# Altium footprint library Pin Grid Array Package (PGA).PcbLib: 60 footprints (part 5 of 6)
Each footprint in its own frame and in the unit in brackets; x right, y up, seen from the top. Pads: shape width x height; smd on the part's side, far side on the other; paste and mask are expansions set on the pad; w line width, h text height; cw(c..) or ccw(c..) is an arc to the next point about the centre after c.
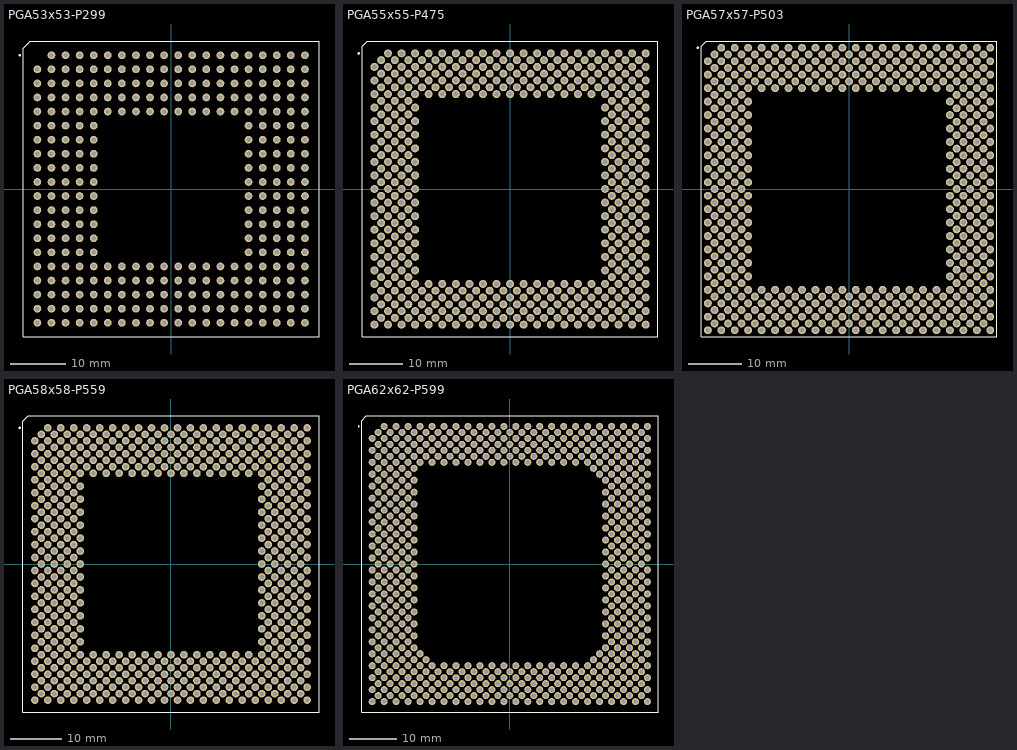
[diagram p4: the footprints below, top view; thin cyan lines are the x and y axes]

## PGA53x53-P299 [mm] "PGA; 299 Leads; Body 52 x 52 mm; Plain Grid"
height 5.08
pads (299):
  round 1.4 hole 0.8: A2(-21.59,24.13) A3(-19.05,24.13) A4(-16.51,24.13) A5(-13.97,24.13) A6(-11.43,24.13) A7(-8.89,24.13) A8(-6.35,24.13) A9(-3.81,24.13) A10(-1.27,24.13) A11(1.27,24.13) A12(3.81,24.13) A13(6.35,24.13) A14(8.89,24.13) A15(11.43,24.13) A16(13.97,24.13) A17(16.51,24.13) A18(19.05,24.13) A19(21.59,24.13) A20(24.13,24.13) B1(-24.13,21.59) B2(-21.59,21.59) B3(-19.05,21.59) B4(-16.51,21.59) B5(-13.97,21.59) B6(-11.43,21.59) B7(-8.89,21.59) B8(-6.35,21.59) B9(-3.81,21.59) B10(-1.27,21.59) B11(1.27,21.59) B12(3.81,21.59) B13(6.35,21.59) B14(8.89,21.59) B15(11.43,21.59) B16(13.97,21.59) B17(16.51,21.59) B18(19.05,21.59) B19(21.59,21.59) B20(24.13,21.59) C1(-24.13,19.05) C2(-21.59,19.05) C3(-19.05,19.05) C4(-16.51,19.05) C5(-13.97,19.05) C6(-11.43,19.05) C7(-8.89,19.05) C8(-6.35,19.05) C9(-3.81,19.05) C10(-1.27,19.05) C11(1.27,19.05) C12(3.81,19.05) C13(6.35,19.05) C14(8.89,19.05) C15(11.43,19.05) C16(13.97,19.05) C17(16.51,19.05) C18(19.05,19.05) C19(21.59,19.05) C20(24.13,19.05) D1(-24.13,16.51) D2(-21.59,16.51) D3(-19.05,16.51) D4(-16.51,16.51) D5(-13.97,16.51) D6(-11.43,16.51) D7(-8.89,16.51) D8(-6.35,16.51) D9(-3.81,16.51) D10(-1.27,16.51) D11(1.27,16.51) D12(3.81,16.51) D13(6.35,16.51) D14(8.89,16.51) D15(11.43,16.51) D16(13.97,16.51) D17(16.51,16.51) D18(19.05,16.51) D19(21.59,16.51) D20(24.13,16.51) E1(-24.13,13.97) E2(-21.59,13.97) E3(-19.05,13.97) E4(-16.51,13.97) E5(-13.97,13.97) E6(-11.43,13.97) E7(-8.89,13.97) E8(-6.35,13.97) E9(-3.81,13.97) E10(-1.27,13.97) E11(1.27,13.97) E12(3.81,13.97) E13(6.35,13.97) E14(8.89,13.97) E15(11.43,13.97) E16(13.97,13.97) E17(16.51,13.97) E18(19.05,13.97) E19(21.59,13.97) E20(24.13,13.97) F1(-24.13,11.43) F2(-21.59,11.43) F3(-19.05,11.43) F4(-16.51,11.43) F5(-13.97,11.43) F16(13.97,11.43) F17(16.51,11.43) F18(19.05,11.43) F19(21.59,11.43) F20(24.13,11.43) G1(-24.13,8.89) G2(-21.59,8.89) G3(-19.05,8.89) G4(-16.51,8.89) G5(-13.97,8.89) G16(13.97,8.89) G17(16.51,8.89) G18(19.05,8.89) G19(21.59,8.89) G20(24.13,8.89) H1(-24.13,6.35) H2(-21.59,6.35) H3(-19.05,6.35) H4(-16.51,6.35) H5(-13.97,6.35) H16(13.97,6.35) H17(16.51,6.35) H18(19.05,6.35) H19(21.59,6.35) H20(24.13,6.35) J1(-24.13,3.81) J2(-21.59,3.81) J3(-19.05,3.81) J4(-16.51,3.81) J5(-13.97,3.81) J16(13.97,3.81) J17(16.51,3.81) J18(19.05,3.81) J19(21.59,3.81) J20(24.13,3.81) K1(-24.13,1.27) K2(-21.59,1.27) K3(-19.05,1.27) K4(-16.51,1.27) K5(-13.97,1.27) K16(13.97,1.27) K17(16.51,1.27) K18(19.05,1.27) K19(21.59,1.27) K20(24.13,1.27) L1(-24.13,-1.27) L2(-21.59,-1.27) L3(-19.05,-1.27) L4(-16.51,-1.27) L5(-13.97,-1.27) L16(13.97,-1.27) L17(16.51,-1.27) L18(19.05,-1.27) L19(21.59,-1.27) L20(24.13,-1.27) M1(-24.13,-3.81) M2(-21.59,-3.81) M3(-19.05,-3.81) M4(-16.51,-3.81) M5(-13.97,-3.81) M16(13.97,-3.81) M17(16.51,-3.81) M18(19.05,-3.81) M19(21.59,-3.81) M20(24.13,-3.81) N1(-24.13,-6.35) N2(-21.59,-6.35) N3(-19.05,-6.35) N4(-16.51,-6.35) N5(-13.97,-6.35) N16(13.97,-6.35) N17(16.51,-6.35) N18(19.05,-6.35) N19(21.59,-6.35) N20(24.13,-6.35) P1(-24.13,-8.89) P2(-21.59,-8.89) P3(-19.05,-8.89) P4(-16.51,-8.89) P5(-13.97,-8.89) P16(13.97,-8.89) P17(16.51,-8.89) P18(19.05,-8.89) P19(21.59,-8.89) P20(24.13,-8.89) R1(-24.13,-11.43) R2(-21.59,-11.43) R3(-19.05,-11.43) R4(-16.51,-11.43) R5(-13.97,-11.43) R16(13.97,-11.43) R17(16.51,-11.43) R18(19.05,-11.43) R19(21.59,-11.43) R20(24.13,-11.43) T1(-24.13,-13.97) T2(-21.59,-13.97) T3(-19.05,-13.97) T4(-16.51,-13.97) T5(-13.97,-13.97) T6(-11.43,-13.97) T7(-8.89,-13.97) T8(-6.35,-13.97) T9(-3.81,-13.97) T10(-1.27,-13.97) T11(1.27,-13.97) T12(3.81,-13.97) T13(6.35,-13.97) T14(8.89,-13.97) T15(11.43,-13.97) T16(13.97,-13.97) T17(16.51,-13.97) T18(19.05,-13.97) T19(21.59,-13.97) T20(24.13,-13.97) U1(-24.13,-16.51) U2(-21.59,-16.51) U3(-19.05,-16.51) U4(-16.51,-16.51) U5(-13.97,-16.51) U6(-11.43,-16.51) U7(-8.89,-16.51) U8(-6.35,-16.51) U9(-3.81,-16.51) U10(-1.27,-16.51) U11(1.27,-16.51) U12(3.81,-16.51) U13(6.35,-16.51) U14(8.89,-16.51) U15(11.43,-16.51) U16(13.97,-16.51) U17(16.51,-16.51) U18(19.05,-16.51) U19(21.59,-16.51) U20(24.13,-16.51) V1(-24.13,-19.05) V2(-21.59,-19.05) V3(-19.05,-19.05) V4(-16.51,-19.05) V5(-13.97,-19.05) V6(-11.43,-19.05) V7(-8.89,-19.05) V8(-6.35,-19.05) V9(-3.81,-19.05) V10(-1.27,-19.05) V11(1.27,-19.05) V12(3.81,-19.05) V13(6.35,-19.05) V14(8.89,-19.05) V15(11.43,-19.05) V16(13.97,-19.05) V17(16.51,-19.05) V18(19.05,-19.05) V19(21.59,-19.05) V20(24.13,-19.05) W1(-24.13,-21.59) W2(-21.59,-21.59) W3(-19.05,-21.59) W4(-16.51,-21.59) W5(-13.97,-21.59) W6(-11.43,-21.59) W7(-8.89,-21.59) W8(-6.35,-21.59) W9(-3.81,-21.59) W10(-1.27,-21.59) W11(1.27,-21.59) W12(3.81,-21.59) W13(6.35,-21.59) W14(8.89,-21.59) W15(11.43,-21.59) W16(13.97,-21.59) W17(16.51,-21.59) W18(19.05,-21.59) W19(21.59,-21.59) W20(24.13,-21.59) Y1(-24.13,-24.13) Y2(-21.59,-24.13) Y3(-19.05,-24.13) Y4(-16.51,-24.13) Y5(-13.97,-24.13) Y6(-11.43,-24.13) Y7(-8.89,-24.13) Y8(-6.35,-24.13) Y9(-3.81,-24.13) Y10(-1.27,-24.13) Y11(1.27,-24.13) Y12(3.81,-24.13) Y13(6.35,-24.13) Y14(8.89,-24.13) Y15(11.43,-24.13) Y16(13.97,-24.13) Y17(16.51,-24.13) Y18(19.05,-24.13) Y19(21.59,-24.13) Y20(24.13,-24.13)
Top Overlay:
  circle w0.25: c-27.32,24.13 r0.125
  lines w0.2: -26.67,-26.67 -26.67,25.4 -25.4,26.67 26.67,26.67 26.67,-26.67 -26.67,-26.67

## PGA55x55-P475 [mm] "475-Pin Ceramic Pin Grid Array (PG475)"
height 5.86
pads (475):
  round 1.5 hole 0.9: A3(-22.86,25.4) A5(-20.32,25.4) A7(-17.78,25.4) A9(-15.24,25.4) A11(-12.7,25.4) A13(-10.16,25.4) A15(-7.62,25.4) A17(-5.08,25.4) A19(-2.54,25.4) A21(0,25.4) A23(2.54,25.4) A25(5.08,25.4) A27(7.62,25.4) A29(10.16,25.4) A31(12.7,25.4) A33(15.24,25.4) A35(17.78,25.4) A37(20.32,25.4) A39(22.86,25.4) A41(25.4,25.4) AA1(-25.4,0) AA3(-22.86,0) AA5(-20.32,0) AA7(-17.78,0) AA35(17.78,0) AA37(20.32,0) AA39(22.86,0) AA41(25.4,0) AB2(-24.13,-1.27) AB4(-21.59,-1.27) AB6(-19.05,-1.27) AB36(19.05,-1.27) AB38(21.59,-1.27) AB40(24.13,-1.27) AC1(-25.4,-2.54) AC3(-22.86,-2.54) AC5(-20.32,-2.54) AC7(-17.78,-2.54) AC35(17.78,-2.54) AC37(20.32,-2.54) AC39(22.86,-2.54) AC41(25.4,-2.54) AD2(-24.13,-3.81) AD4(-21.59,-3.81) AD6(-19.05,-3.81) AD36(19.05,-3.81) AD38(21.59,-3.81) AD40(24.13,-3.81) AE1(-25.4,-5.08) AE3(-22.86,-5.08) AE5(-20.32,-5.08) AE7(-17.78,-5.08) AE35(17.78,-5.08) AE37(20.32,-5.08) AE39(22.86,-5.08) AE41(25.4,-5.08) AF2(-24.13,-6.35) AF4(-21.59,-6.35) AF6(-19.05,-6.35) AF36(19.05,-6.35) AF38(21.59,-6.35) AF40(24.13,-6.35) AG1(-25.4,-7.62) AG3(-22.86,-7.62) AG5(-20.32,-7.62) AG7(-17.78,-7.62) AG35(17.78,-7.62) AG37(20.32,-7.62) AG39(22.86,-7.62) AG41(25.4,-7.62) AH2(-24.13,-8.89) AH4(-21.59,-8.89) AH6(-19.05,-8.89) AH36(19.05,-8.89) AH38(21.59,-8.89) AH40(24.13,-8.89) AJ1(-25.4,-10.16) AJ3(-22.86,-10.16) AJ5(-20.32,-10.16) AJ7(-17.78,-10.16) AJ35(17.78,-10.16) AJ37(20.32,-10.16) AJ39(22.86,-10.16) AJ41(25.4,-10.16) AK2(-24.13,-11.43) AK4(-21.59,-11.43) AK6(-19.05,-11.43) AK36(19.05,-11.43) AK38(21.59,-11.43) AK40(24.13,-11.43) AL1(-25.4,-12.7) AL3(-22.86,-12.7) AL5(-20.32,-12.7) AL7(-17.78,-12.7) AL35(17.78,-12.7) AL37(20.32,-12.7) AL39(22.86,-12.7) AL41(25.4,-12.7) AM2(-24.13,-13.97) AM4(-21.59,-13.97) AM6(-19.05,-13.97) AM36(19.05,-13.97) AM38(21.59,-13.97) AM40(24.13,-13.97) AN1(-25.4,-15.24) AN3(-22.86,-15.24) AN5(-20.32,-15.24) AN7(-17.78,-15.24) AN35(17.78,-15.24) AN37(20.32,-15.24) AN39(22.86,-15.24) AN41(25.4,-15.24) AP2(-24.13,-16.51) AP4(-21.59,-16.51) AP6(-19.05,-16.51) AP36(19.05,-16.51) AP38(21.59,-16.51) AP40(24.13,-16.51) AR1(-25.4,-17.78) AR3(-22.86,-17.78) AR5(-20.32,-17.78) AR7(-17.78,-17.78) AR9(-15.24,-17.78) AR11(-12.7,-17.78) AR13(-10.16,-17.78) AR15(-7.62,-17.78) AR17(-5.08,-17.78) AR19(-2.54,-17.78) AR21(0,-17.78) AR23(2.54,-17.78) AR25(5.08,-17.78) AR27(7.62,-17.78) AR29(10.16,-17.78) AR31(12.7,-17.78) AR33(15.24,-17.78) AR35(17.78,-17.78) AR37(20.32,-17.78) AR39(22.86,-17.78) AR41(25.4,-17.78) AT2(-24.13,-19.05) AT4(-21.59,-19.05) AT6(-19.05,-19.05) AT8(-16.51,-19.05) AT10(-13.97,-19.05) AT12(-11.43,-19.05) AT14(-8.89,-19.05) AT16(-6.35,-19.05) AT18(-3.81,-19.05) AT20(-1.27,-19.05) AT22(1.27,-19.05) AT24(3.81,-19.05) AT26(6.35,-19.05) AT28(8.89,-19.05) AT30(11.43,-19.05) AT32(13.97,-19.05) AT34(16.51,-19.05) AT36(19.05,-19.05) AT38(21.59,-19.05) AT40(24.13,-19.05) AU1(-25.4,-20.32) AU3(-22.86,-20.32) AU5(-20.32,-20.32) AU7(-17.78,-20.32) AU9(-15.24,-20.32) AU11(-12.7,-20.32) AU13(-10.16,-20.32) AU15(-7.62,-20.32) AU17(-5.08,-20.32) AU19(-2.54,-20.32) AU21(0,-20.32) AU23(2.54,-20.32) AU25(5.08,-20.32) AU27(7.62,-20.32) AU29(10.16,-20.32) AU31(12.7,-20.32) AU33(15.24,-20.32) AU35(17.78,-20.32) AU37(20.32,-20.32) AU39(22.86,-20.32) AU41(25.4,-20.32) AV2(-24.13,-21.59) AV4(-21.59,-21.59) AV6(-19.05,-21.59) AV8(-16.51,-21.59) AV10(-13.97,-21.59) AV12(-11.43,-21.59) AV14(-8.89,-21.59) AV16(-6.35,-21.59) AV18(-3.81,-21.59) AV20(-1.27,-21.59) AV22(1.27,-21.59) AV24(3.81,-21.59) AV26(6.35,-21.59) AV28(8.89,-21.59) AV30(11.43,-21.59) AV32(13.97,-21.59) AV34(16.51,-21.59) AV36(19.05,-21.59) AV38(21.59,-21.59) AV40(24.13,-21.59) AW1(-25.4,-22.86) AW3(-22.86,-22.86) AW5(-20.32,-22.86) AW7(-17.78,-22.86) AW9(-15.24,-22.86) AW11(-12.7,-22.86) AW13(-10.16,-22.86) AW15(-7.62,-22.86) AW17(-5.08,-22.86) AW19(-2.54,-22.86) AW21(0,-22.86) AW23(2.54,-22.86) AW25(5.08,-22.86) AW27(7.62,-22.86) AW29(10.16,-22.86) AW31(12.7,-22.86) AW33(15.24,-22.86) AW35(17.78,-22.86) AW37(20.32,-22.86) AW39(22.86,-22.86) AW41(25.4,-22.86) AY2(-24.13,-24.13) AY4(-21.59,-24.13) AY6(-19.05,-24.13) AY8(-16.51,-24.13) AY10(-13.97,-24.13) AY12(-11.43,-24.13) AY14(-8.89,-24.13) AY16(-6.35,-24.13) AY18(-3.81,-24.13) AY20(-1.27,-24.13) AY22(1.27,-24.13) AY24(3.81,-24.13) AY26(6.35,-24.13) AY28(8.89,-24.13) AY30(11.43,-24.13) AY32(13.97,-24.13) AY34(16.51,-24.13) AY36(19.05,-24.13) AY38(21.59,-24.13) AY40(24.13,-24.13) B2(-24.13,24.13) B4(-21.59,24.13) B6(-19.05,24.13) B8(-16.51,24.13) B10(-13.97,24.13) B12(-11.43,24.13) B14(-8.89,24.13) B16(-6.35,24.13) B18(-3.81,24.13) B20(-1.27,24.13) B22(1.27,24.13) B24(3.81,24.13) B26(6.35,24.13) B28(8.89,24.13) B30(11.43,24.13) B32(13.97,24.13) B34(16.51,24.13) B36(19.05,24.13) B38(21.59,24.13) B40(24.13,24.13) BA1(-25.4,-25.4) BA3(-22.86,-25.4) BA5(-20.32,-25.4) BA7(-17.78,-25.4) BA9(-15.24,-25.4) BA11(-12.7,-25.4) BA13(-10.16,-25.4) BA15(-7.62,-25.4) BA17(-5.08,-25.4) BA19(-2.54,-25.4) BA21(0,-25.4) BA23(2.54,-25.4) BA25(5.08,-25.4) BA27(7.62,-25.4) BA29(10.16,-25.4) BA31(12.7,-25.4) BA33(15.24,-25.4) BA35(17.78,-25.4) BA37(20.32,-25.4) BA39(22.86,-25.4) BA41(25.4,-25.4) C1(-25.4,22.86) C3(-22.86,22.86) C5(-20.32,22.86) C7(-17.78,22.86) C9(-15.24,22.86) C11(-12.7,22.86) C13(-10.16,22.86) C15(-7.62,22.86) C17(-5.08,22.86) C19(-2.54,22.86) C21(0,22.86) C23(2.54,22.86) C25(5.08,22.86) C27(7.62,22.86) C29(10.16,22.86) C31(12.7,22.86) C33(15.24,22.86) C35(17.78,22.86) C37(20.32,22.86) C39(22.86,22.86) C41(25.4,22.86) D2(-24.13,21.59) D4(-21.59,21.59) D6(-19.05,21.59) D8(-16.51,21.59) D10(-13.97,21.59) D12(-11.43,21.59) D14(-8.89,21.59) D16(-6.35,21.59) D18(-3.81,21.59) D20(-1.27,21.59) D22(1.27,21.59) D24(3.81,21.59) D26(6.35,21.59) D28(8.89,21.59) D30(11.43,21.59) D32(13.97,21.59) D34(16.51,21.59) D36(19.05,21.59) D38(21.59,21.59) D40(24.13,21.59) E1(-25.4,20.32) E3(-22.86,20.32) E5(-20.32,20.32) E7(-17.78,20.32) E9(-15.24,20.32) E11(-12.7,20.32) E13(-10.16,20.32) E15(-7.62,20.32) E17(-5.08,20.32) E19(-2.54,20.32) E21(0,20.32) E23(2.54,20.32) E25(5.08,20.32) E27(7.62,20.32) E29(10.16,20.32) E31(12.7,20.32) E33(15.24,20.32) E35(17.78,20.32) E37(20.32,20.32) E39(22.86,20.32) E41(25.4,20.32) F2(-24.13,19.05) F4(-21.59,19.05) F6(-19.05,19.05) F8(-16.51,19.05) F10(-13.97,19.05) F12(-11.43,19.05) F14(-8.89,19.05) F16(-6.35,19.05) F18(-3.81,19.05) F20(-1.27,19.05) F22(1.27,19.05) F24(3.81,19.05) F26(6.35,19.05) F28(8.89,19.05) F30(11.43,19.05) F32(13.97,19.05) F34(16.51,19.05) F36(19.05,19.05) F38(21.59,19.05) F40(24.13,19.05) G1(-25.4,17.78) G3(-22.86,17.78) G5(-20.32,17.78) G7(-17.78,17.78) G9(-15.24,17.78) G11(-12.7,17.78) G13(-10.16,17.78) G15(-7.62,17.78) G17(-5.08,17.78) G19(-2.54,17.78) G21(0,17.78) G23(2.54,17.78) G25(5.08,17.78) G27(7.62,17.78) G29(10.16,17.78) G31(12.7,17.78) G33(15.24,17.78) G35(17.78,17.78) G37(20.32,17.78) G39(22.86,17.78) G41(25.4,17.78) H2(-24.13,16.51) H4(-21.59,16.51) H6(-19.05,16.51) H36(19.05,16.51) H38(21.59,16.51) H40(24.13,16.51) J1(-25.4,15.24) J3(-22.86,15.24) J5(-20.32,15.24) J7(-17.78,15.24) J35(17.78,15.24) J37(20.32,15.24) J39(22.86,15.24) J41(25.4,15.24) K2(-24.13,13.97) K4(-21.59,13.97) K6(-19.05,13.97) K36(19.05,13.97) K38(21.59,13.97) K40(24.13,13.97) L1(-25.4,12.7) L3(-22.86,12.7) L5(-20.32,12.7) L7(-17.78,12.7) L35(17.78,12.7) L37(20.32,12.7) L39(22.86,12.7) L41(25.4,12.7) M2(-24.13,11.43) M4(-21.59,11.43) M6(-19.05,11.43) M36(19.05,11.43) M38(21.59,11.43) M40(24.13,11.43) N1(-25.4,10.16) N3(-22.86,10.16) N5(-20.32,10.16) N7(-17.78,10.16) N35(17.78,10.16) N37(20.32,10.16) N39(22.86,10.16) N41(25.4,10.16) P2(-24.13,8.89) P4(-21.59,8.89) P6(-19.05,8.89) P36(19.05,8.89) P38(21.59,8.89) P40(24.13,8.89) R1(-25.4,7.62) R3(-22.86,7.62) R5(-20.32,7.62) R7(-17.78,7.62) R35(17.78,7.62) R37(20.32,7.62) R39(22.86,7.62) R41(25.4,7.62) T2(-24.13,6.35) T4(-21.59,6.35) T6(-19.05,6.35) T36(19.05,6.35) T38(21.59,6.35) T40(24.13,6.35) U1(-25.4,5.08) U3(-22.86,5.08) U5(-20.32,5.08) U7(-17.78,5.08) U35(17.78,5.08) U37(20.32,5.08) U39(22.86,5.08) U41(25.4,5.08) V2(-24.13,3.81) V4(-21.59,3.81) V6(-19.05,3.81) V36(19.05,3.81) V38(21.59,3.81) V40(24.13,3.81) W1(-25.4,2.54) W3(-22.86,2.54) W5(-20.32,2.54) W7(-17.78,2.54) W35(17.78,2.54) W37(20.32,2.54) W39(22.86,2.54) W41(25.4,2.54) Y2(-24.13,1.27) Y4(-21.59,1.27) Y6(-19.05,1.27) Y36(19.05,1.27) Y38(21.59,1.27) Y40(24.13,1.27)
Top Overlay:
  circle w0.25: c-28.35,25.4 r0.125
  lines w0.2: -27.7,-27.7 -27.7,26.7 -26.7,27.7 27.7,27.7 27.7,-27.7 -27.7,-27.7

## PGA57x57-P503 [mm] "503-Pin Ceramic Pin-Grid Array (PGA)"
height 5.08
pads (503):
  round 1.5 hole 0.9: A3(-24.13,26.67) A5(-21.59,26.67) A7(-19.05,26.67) A9(-16.51,26.67) A11(-13.97,26.67) A13(-11.43,26.67) A15(-8.89,26.67) A17(-6.35,26.67) A19(-3.81,26.67) A21(-1.27,26.67) A23(1.27,26.67) A25(3.81,26.67) A27(6.35,26.67) A29(8.89,26.67) A31(11.43,26.67) A33(13.97,26.67) A35(16.51,26.67) A37(19.05,26.67) A39(21.59,26.67) A41(24.13,26.67) A43(26.67,26.67) AA1(-26.67,1.27) AA3(-24.13,1.27) AA5(-21.59,1.27) AA7(-19.05,1.27) AA37(19.05,1.27) AA39(21.59,1.27) AA41(24.13,1.27) AA43(26.67,1.27) AB2(-25.4,0) AB4(-22.86,0) AB6(-20.32,0) AB38(20.32,0) AB40(22.86,0) AB42(25.4,0) AC1(-26.67,-1.27) AC3(-24.13,-1.27) AC5(-21.59,-1.27) AC7(-19.05,-1.27) AC37(19.05,-1.27) AC39(21.59,-1.27) AC41(24.13,-1.27) AC43(26.67,-1.27) AD2(-25.4,-2.54) AD4(-22.86,-2.54) AD6(-20.32,-2.54) AD38(20.32,-2.54) AD40(22.86,-2.54) AD42(25.4,-2.54) AE1(-26.67,-3.81) AE3(-24.13,-3.81) AE5(-21.59,-3.81) AE7(-19.05,-3.81) AE37(19.05,-3.81) AE39(21.59,-3.81) AE41(24.13,-3.81) AE43(26.67,-3.81) AF2(-25.4,-5.08) AF4(-22.86,-5.08) AF6(-20.32,-5.08) AF38(20.32,-5.08) AF40(22.86,-5.08) AF42(25.4,-5.08) AG1(-26.67,-6.35) AG3(-24.13,-6.35) AG5(-21.59,-6.35) AG7(-19.05,-6.35) AG37(19.05,-6.35) AG39(21.59,-6.35) AG41(24.13,-6.35) AG43(26.67,-6.35) AH2(-25.4,-7.62) AH4(-22.86,-7.62) AH6(-20.32,-7.62) AH38(20.32,-7.62) AH40(22.86,-7.62) AH42(25.4,-7.62) AJ1(-26.67,-8.89) AJ3(-24.13,-8.89) AJ5(-21.59,-8.89) AJ7(-19.05,-8.89) AJ37(19.05,-8.89) AJ39(21.59,-8.89) AJ41(24.13,-8.89) AJ43(26.67,-8.89) AK2(-25.4,-10.16) AK4(-22.86,-10.16) AK6(-20.32,-10.16) AK38(20.32,-10.16) AK40(22.86,-10.16) AK42(25.4,-10.16) AL1(-26.67,-11.43) AL3(-24.13,-11.43) AL5(-21.59,-11.43) AL7(-19.05,-11.43) AL37(19.05,-11.43) AL39(21.59,-11.43) AL41(24.13,-11.43) AL43(26.67,-11.43) AM2(-25.4,-12.7) AM4(-22.86,-12.7) AM6(-20.32,-12.7) AM38(20.32,-12.7) AM40(22.86,-12.7) AM42(25.4,-12.7) AN1(-26.67,-13.97) AN3(-24.13,-13.97) AN5(-21.59,-13.97) AN7(-19.05,-13.97) AN37(19.05,-13.97) AN39(21.59,-13.97) AN41(24.13,-13.97) AN43(26.67,-13.97) AP2(-25.4,-15.24) AP4(-22.86,-15.24) AP6(-20.32,-15.24) AP38(20.32,-15.24) AP40(22.86,-15.24) AP42(25.4,-15.24) AR1(-26.67,-16.51) AR3(-24.13,-16.51) AR5(-21.59,-16.51) AR7(-19.05,-16.51) AR37(19.05,-16.51) AR39(21.59,-16.51) AR41(24.13,-16.51) AR43(26.67,-16.51) AT2(-25.4,-17.78) AT4(-22.86,-17.78) AT6(-20.32,-17.78) AT38(20.32,-17.78) AT40(22.86,-17.78) AT42(25.4,-17.78) AU1(-26.67,-19.05) AU3(-24.13,-19.05) AU5(-21.59,-19.05) AU7(-19.05,-19.05) AU9(-16.51,-19.05) AU11(-13.97,-19.05) AU13(-11.43,-19.05) AU15(-8.89,-19.05) AU17(-6.35,-19.05) AU19(-3.81,-19.05) AU21(-1.27,-19.05) AU23(1.27,-19.05) AU25(3.81,-19.05) AU27(6.35,-19.05) AU29(8.89,-19.05) AU31(11.43,-19.05) AU33(13.97,-19.05) AU35(16.51,-19.05) AU37(19.05,-19.05) AU39(21.59,-19.05) AU41(24.13,-19.05) AU43(26.67,-19.05) AV2(-25.4,-20.32) AV4(-22.86,-20.32) AV6(-20.32,-20.32) AV8(-17.78,-20.32) AV10(-15.24,-20.32) AV12(-12.7,-20.32) AV14(-10.16,-20.32) AV16(-7.62,-20.32) AV18(-5.08,-20.32) AV20(-2.54,-20.32) AV22(0,-20.32) AV24(2.54,-20.32) AV26(5.08,-20.32) AV28(7.62,-20.32) AV30(10.16,-20.32) AV32(12.7,-20.32) AV34(15.24,-20.32) AV36(17.78,-20.32) AV38(20.32,-20.32) AV40(22.86,-20.32) AV42(25.4,-20.32) AW1(-26.67,-21.59) AW3(-24.13,-21.59) AW5(-21.59,-21.59) AW7(-19.05,-21.59) AW9(-16.51,-21.59) AW11(-13.97,-21.59) AW13(-11.43,-21.59) AW15(-8.89,-21.59) AW17(-6.35,-21.59) AW19(-3.81,-21.59) AW21(-1.27,-21.59) AW23(1.27,-21.59) AW25(3.81,-21.59) AW27(6.35,-21.59) AW29(8.89,-21.59) AW31(11.43,-21.59) AW33(13.97,-21.59) AW35(16.51,-21.59) AW37(19.05,-21.59) AW39(21.59,-21.59) AW41(24.13,-21.59) AW43(26.67,-21.59) AY2(-25.4,-22.86) AY4(-22.86,-22.86) AY6(-20.32,-22.86) AY8(-17.78,-22.86) AY10(-15.24,-22.86) AY12(-12.7,-22.86) AY14(-10.16,-22.86) AY16(-7.62,-22.86) AY18(-5.08,-22.86) AY20(-2.54,-22.86) AY22(0,-22.86) AY24(2.54,-22.86) AY26(5.08,-22.86) AY28(7.62,-22.86) AY30(10.16,-22.86) AY32(12.7,-22.86) AY34(15.24,-22.86) AY36(17.78,-22.86) AY38(20.32,-22.86) AY40(22.86,-22.86) AY42(25.4,-22.86) B2(-25.4,25.4) B4(-22.86,25.4) B6(-20.32,25.4) B8(-17.78,25.4) B10(-15.24,25.4) B12(-12.7,25.4) B14(-10.16,25.4) B16(-7.62,25.4) B18(-5.08,25.4) B20(-2.54,25.4) B22(0,25.4) B24(2.54,25.4) B26(5.08,25.4) B28(7.62,25.4) B30(10.16,25.4) B32(12.7,25.4) B34(15.24,25.4) B36(17.78,25.4) B38(20.32,25.4) B40(22.86,25.4) B42(25.4,25.4) BA1(-26.67,-24.13) BA3(-24.13,-24.13) BA5(-21.59,-24.13) BA7(-19.05,-24.13) BA9(-16.51,-24.13) BA11(-13.97,-24.13) BA13(-11.43,-24.13) BA15(-8.89,-24.13) BA17(-6.35,-24.13) BA19(-3.81,-24.13) BA21(-1.27,-24.13) BA23(1.27,-24.13) BA25(3.81,-24.13) BA27(6.35,-24.13) BA29(8.89,-24.13) BA31(11.43,-24.13) BA33(13.97,-24.13) BA35(16.51,-24.13) BA37(19.05,-24.13) BA39(21.59,-24.13) BA41(24.13,-24.13) BA43(26.67,-24.13) BB2(-25.4,-25.4) BB4(-22.86,-25.4) BB6(-20.32,-25.4) BB8(-17.78,-25.4) BB10(-15.24,-25.4) BB12(-12.7,-25.4) BB14(-10.16,-25.4) BB16(-7.62,-25.4) BB18(-5.08,-25.4) BB20(-2.54,-25.4) BB22(0,-25.4) BB24(2.54,-25.4) BB26(5.08,-25.4) BB28(7.62,-25.4) BB30(10.16,-25.4) BB32(12.7,-25.4) BB34(15.24,-25.4) BB36(17.78,-25.4) BB38(20.32,-25.4) BB40(22.86,-25.4) BB42(25.4,-25.4) BC1(-26.67,-26.67) BC3(-24.13,-26.67) BC5(-21.59,-26.67) BC7(-19.05,-26.67) BC9(-16.51,-26.67) BC11(-13.97,-26.67) BC13(-11.43,-26.67) BC15(-8.89,-26.67) BC17(-6.35,-26.67) BC19(-3.81,-26.67) BC21(-1.27,-26.67) BC23(1.27,-26.67) BC25(3.81,-26.67) BC27(6.35,-26.67) BC29(8.89,-26.67) BC31(11.43,-26.67) BC33(13.97,-26.67) BC35(16.51,-26.67) BC37(19.05,-26.67) BC39(21.59,-26.67) BC41(24.13,-26.67) BC43(26.67,-26.67) C1(-26.67,24.13) C3(-24.13,24.13) C5(-21.59,24.13) C7(-19.05,24.13) C9(-16.51,24.13) C11(-13.97,24.13) C13(-11.43,24.13) C15(-8.89,24.13) C17(-6.35,24.13) C19(-3.81,24.13) C21(-1.27,24.13) C23(1.27,24.13) C25(3.81,24.13) C27(6.35,24.13) C29(8.89,24.13) C31(11.43,24.13) C33(13.97,24.13) C35(16.51,24.13) C37(19.05,24.13) C39(21.59,24.13) C41(24.13,24.13) C43(26.67,24.13) D2(-25.4,22.86) D4(-22.86,22.86) D6(-20.32,22.86) D8(-17.78,22.86) D10(-15.24,22.86) D12(-12.7,22.86) D14(-10.16,22.86) D16(-7.62,22.86) D18(-5.08,22.86) D20(-2.54,22.86) D22(0,22.86) D24(2.54,22.86) D26(5.08,22.86) D28(7.62,22.86) D30(10.16,22.86) D32(12.7,22.86) D34(15.24,22.86) D36(17.78,22.86) D38(20.32,22.86) D40(22.86,22.86) D42(25.4,22.86) E1(-26.67,21.59) E3(-24.13,21.59) E5(-21.59,21.59) E7(-19.05,21.59) E9(-16.51,21.59) E11(-13.97,21.59) E13(-11.43,21.59) E15(-8.89,21.59) E17(-6.35,21.59) E19(-3.81,21.59) E21(-1.27,21.59) E23(1.27,21.59) E25(3.81,21.59) E27(6.35,21.59) E29(8.89,21.59) E31(11.43,21.59) E33(13.97,21.59) E35(16.51,21.59) E37(19.05,21.59) E39(21.59,21.59) E41(24.13,21.59) E43(26.67,21.59) F2(-25.4,20.32) F4(-22.86,20.32) F6(-20.32,20.32) F8(-17.78,20.32) F10(-15.24,20.32) F12(-12.7,20.32) F14(-10.16,20.32) F16(-7.62,20.32) F18(-5.08,20.32) F20(-2.54,20.32) F22(0,20.32) F24(2.54,20.32) F26(5.08,20.32) F28(7.62,20.32) F30(10.16,20.32) F32(12.7,20.32) F34(15.24,20.32) F36(17.78,20.32) F38(20.32,20.32) F40(22.86,20.32) F42(25.4,20.32) G1(-26.67,19.05) G3(-24.13,19.05) G5(-21.59,19.05) G7(-19.05,19.05) G9(-16.51,19.05) G11(-13.97,19.05) G13(-11.43,19.05) G15(-8.89,19.05) G17(-6.35,19.05) G19(-3.81,19.05) G21(-1.27,19.05) G23(1.27,19.05) G25(3.81,19.05) G27(6.35,19.05) G29(8.89,19.05) G31(11.43,19.05) G33(13.97,19.05) G35(16.51,19.05) G37(19.05,19.05) G39(21.59,19.05) G41(24.13,19.05) G43(26.67,19.05) H2(-25.4,17.78) H4(-22.86,17.78) H6(-20.32,17.78) H38(20.32,17.78) H40(22.86,17.78) H42(25.4,17.78) J1(-26.67,16.51) J3(-24.13,16.51) J5(-21.59,16.51) J7(-19.05,16.51) J37(19.05,16.51) J39(21.59,16.51) J41(24.13,16.51) J43(26.67,16.51) K2(-25.4,15.24) K4(-22.86,15.24) K6(-20.32,15.24) K38(20.32,15.24) K40(22.86,15.24) K42(25.4,15.24) L1(-26.67,13.97) L3(-24.13,13.97) L5(-21.59,13.97) L7(-19.05,13.97) L37(19.05,13.97) L39(21.59,13.97) L41(24.13,13.97) L43(26.67,13.97) M2(-25.4,12.7) M4(-22.86,12.7) M6(-20.32,12.7) M38(20.32,12.7) M40(22.86,12.7) M42(25.4,12.7) N1(-26.67,11.43) N3(-24.13,11.43) N5(-21.59,11.43) N7(-19.05,11.43) N37(19.05,11.43) N39(21.59,11.43) N41(24.13,11.43) N43(26.67,11.43) P2(-25.4,10.16) P4(-22.86,10.16) P6(-20.32,10.16) P38(20.32,10.16) P40(22.86,10.16) P42(25.4,10.16) R1(-26.67,8.89) R3(-24.13,8.89) R5(-21.59,8.89) R7(-19.05,8.89) R37(19.05,8.89) R39(21.59,8.89) R41(24.13,8.89) R43(26.67,8.89) T2(-25.4,7.62) T4(-22.86,7.62) T6(-20.32,7.62) T38(20.32,7.62) T40(22.86,7.62) T42(25.4,7.62) U1(-26.67,6.35) U3(-24.13,6.35) U5(-21.59,6.35) U7(-19.05,6.35) U37(19.05,6.35) U39(21.59,6.35) U41(24.13,6.35) U43(26.67,6.35) V2(-25.4,5.08) V4(-22.86,5.08) V6(-20.32,5.08) V38(20.32,5.08) V40(22.86,5.08) V42(25.4,5.08) W1(-26.67,3.81) W3(-24.13,3.81) W5(-21.59,3.81) W7(-19.05,3.81) W37(19.05,3.81) W39(21.59,3.81) W41(24.13,3.81) W43(26.67,3.81) Y2(-25.4,2.54) Y4(-22.86,2.54) Y6(-20.32,2.54) Y38(20.32,2.54) Y40(22.86,2.54) Y42(25.4,2.54)
Top Overlay:
  circle w0.25: c-28.59,26.67 r0.125
  lines w0.2: -27.94,-27.94 27.94,-27.94 27.94,27.94 -26.94,27.94 -27.94,26.94 -27.94,-27.94

## PGA58x58-P559 [mm] "559-Pin Ceramic Pin Grid Array (PG559)"
height 5.86
pads (559):
  round 1.5 hole 0.9: A3(-24.13,26.67) A5(-21.59,26.67) A7(-19.05,26.67) A9(-16.51,26.67) A11(-13.97,26.67) A13(-11.43,26.67) A15(-8.89,26.67) A17(-6.35,26.67) A19(-3.81,26.67) A21(-1.27,26.67) A23(1.27,26.67) A25(3.81,26.67) A27(6.35,26.67) A29(8.89,26.67) A31(11.43,26.67) A33(13.97,26.67) A35(16.51,26.67) A37(19.05,26.67) A39(21.59,26.67) A41(24.13,26.67) A43(26.67,26.67) AA1(-26.67,1.27) AA3(-24.13,1.27) AA5(-21.59,1.27) AA7(-19.05,1.27) AA37(19.05,1.27) AA39(21.59,1.27) AA41(24.13,1.27) AA43(26.67,1.27) AB2(-25.4,0) AB4(-22.86,0) AB6(-20.32,0) AB8(-17.78,0) AB36(17.78,0) AB38(20.32,0) AB40(22.86,0) AB42(25.4,0) AC1(-26.67,-1.27) AC3(-24.13,-1.27) AC5(-21.59,-1.27) AC7(-19.05,-1.27) AC37(19.05,-1.27) AC39(21.59,-1.27) AC41(24.13,-1.27) AC43(26.67,-1.27) AD2(-25.4,-2.54) AD4(-22.86,-2.54) AD6(-20.32,-2.54) AD8(-17.78,-2.54) AD36(17.78,-2.54) AD38(20.32,-2.54) AD40(22.86,-2.54) AD42(25.4,-2.54) AE1(-26.67,-3.81) AE3(-24.13,-3.81) AE5(-21.59,-3.81) AE7(-19.05,-3.81) AE37(19.05,-3.81) AE39(21.59,-3.81) AE41(24.13,-3.81) AE43(26.67,-3.81) AF2(-25.4,-5.08) AF4(-22.86,-5.08) AF6(-20.32,-5.08) AF8(-17.78,-5.08) AF36(17.78,-5.08) AF38(20.32,-5.08) AF40(22.86,-5.08) AF42(25.4,-5.08) AG1(-26.67,-6.35) AG3(-24.13,-6.35) AG5(-21.59,-6.35) AG7(-19.05,-6.35) AG37(19.05,-6.35) AG39(21.59,-6.35) AG41(24.13,-6.35) AG43(26.67,-6.35) AH2(-25.4,-7.62) AH4(-22.86,-7.62) AH6(-20.32,-7.62) AH8(-17.78,-7.62) AH36(17.78,-7.62) AH38(20.32,-7.62) AH40(22.86,-7.62) AH42(25.4,-7.62) AJ1(-26.67,-8.89) AJ3(-24.13,-8.89) AJ5(-21.59,-8.89) AJ7(-19.05,-8.89) AJ37(19.05,-8.89) AJ39(21.59,-8.89) AJ41(24.13,-8.89) AJ43(26.67,-8.89) AK2(-25.4,-10.16) AK4(-22.86,-10.16) AK6(-20.32,-10.16) AK8(-17.78,-10.16) AK36(17.78,-10.16) AK38(20.32,-10.16) AK40(22.86,-10.16) AK42(25.4,-10.16) AL1(-26.67,-11.43) AL3(-24.13,-11.43) AL5(-21.59,-11.43) AL7(-19.05,-11.43) AL37(19.05,-11.43) AL39(21.59,-11.43) AL41(24.13,-11.43) AL43(26.67,-11.43) AM2(-25.4,-12.7) AM4(-22.86,-12.7) AM6(-20.32,-12.7) AM8(-17.78,-12.7) AM36(17.78,-12.7) AM38(20.32,-12.7) AM40(22.86,-12.7) AM42(25.4,-12.7) AN1(-26.67,-13.97) AN3(-24.13,-13.97) AN5(-21.59,-13.97) AN7(-19.05,-13.97) AN37(19.05,-13.97) AN39(21.59,-13.97) AN41(24.13,-13.97) AN43(26.67,-13.97) AP2(-25.4,-15.24) AP4(-22.86,-15.24) AP6(-20.32,-15.24) AP8(-17.78,-15.24) AP36(17.78,-15.24) AP38(20.32,-15.24) AP40(22.86,-15.24) AP42(25.4,-15.24) AR1(-26.67,-16.51) AR3(-24.13,-16.51) AR5(-21.59,-16.51) AR7(-19.05,-16.51) AR37(19.05,-16.51) AR39(21.59,-16.51) AR41(24.13,-16.51) AR43(26.67,-16.51) AT2(-25.4,-17.78) AT4(-22.86,-17.78) AT6(-20.32,-17.78) AT8(-17.78,-17.78) AT10(-15.24,-17.78) AT12(-12.7,-17.78) AT14(-10.16,-17.78) AT16(-7.62,-17.78) AT18(-5.08,-17.78) AT20(-2.54,-17.78) AT22(0,-17.78) AT24(2.54,-17.78) AT26(5.08,-17.78) AT28(7.62,-17.78) AT30(10.16,-17.78) AT32(12.7,-17.78) AT34(15.24,-17.78) AT36(17.78,-17.78) AT38(20.32,-17.78) AT40(22.86,-17.78) AT42(25.4,-17.78) AU1(-26.67,-19.05) AU3(-24.13,-19.05) AU5(-21.59,-19.05) AU7(-19.05,-19.05) AU9(-16.51,-19.05) AU11(-13.97,-19.05) AU13(-11.43,-19.05) AU15(-8.89,-19.05) AU17(-6.35,-19.05) AU19(-3.81,-19.05) AU21(-1.27,-19.05) AU23(1.27,-19.05) AU25(3.81,-19.05) AU27(6.35,-19.05) AU29(8.89,-19.05) AU31(11.43,-19.05) AU33(13.97,-19.05) AU35(16.51,-19.05) AU37(19.05,-19.05) AU39(21.59,-19.05) AU41(24.13,-19.05) AU43(26.67,-19.05) AV2(-25.4,-20.32) AV4(-22.86,-20.32) AV6(-20.32,-20.32) AV8(-17.78,-20.32) AV10(-15.24,-20.32) AV12(-12.7,-20.32) AV14(-10.16,-20.32) AV16(-7.62,-20.32) AV18(-5.08,-20.32) AV20(-2.54,-20.32) AV22(0,-20.32) AV24(2.54,-20.32) AV26(5.08,-20.32) AV28(7.62,-20.32) AV30(10.16,-20.32) AV32(12.7,-20.32) AV34(15.24,-20.32) AV36(17.78,-20.32) AV38(20.32,-20.32) AV40(22.86,-20.32) AV42(25.4,-20.32) AW1(-26.67,-21.59) AW3(-24.13,-21.59) AW5(-21.59,-21.59) AW7(-19.05,-21.59) AW9(-16.51,-21.59) AW11(-13.97,-21.59) AW13(-11.43,-21.59) AW15(-8.89,-21.59) AW17(-6.35,-21.59) AW19(-3.81,-21.59) AW21(-1.27,-21.59) AW23(1.27,-21.59) AW25(3.81,-21.59) AW27(6.35,-21.59) AW29(8.89,-21.59) AW31(11.43,-21.59) AW33(13.97,-21.59) AW35(16.51,-21.59) AW37(19.05,-21.59) AW39(21.59,-21.59) AW41(24.13,-21.59) AW43(26.67,-21.59) AY2(-25.4,-22.86) AY4(-22.86,-22.86) AY6(-20.32,-22.86) AY8(-17.78,-22.86) AY10(-15.24,-22.86) AY12(-12.7,-22.86) AY14(-10.16,-22.86) AY16(-7.62,-22.86) AY18(-5.08,-22.86) AY20(-2.54,-22.86) AY22(0,-22.86) AY24(2.54,-22.86) AY26(5.08,-22.86) AY28(7.62,-22.86) AY30(10.16,-22.86) AY32(12.7,-22.86) AY34(15.24,-22.86) AY36(17.78,-22.86) AY38(20.32,-22.86) AY40(22.86,-22.86) AY42(25.4,-22.86) B2(-25.4,25.4) B4(-22.86,25.4) B6(-20.32,25.4) B8(-17.78,25.4) B10(-15.24,25.4) B12(-12.7,25.4) B14(-10.16,25.4) B16(-7.62,25.4) B18(-5.08,25.4) B20(-2.54,25.4) B22(0,25.4) B24(2.54,25.4) B26(5.08,25.4) B28(7.62,25.4) B30(10.16,25.4) B32(12.7,25.4) B34(15.24,25.4) B36(17.78,25.4) B38(20.32,25.4) B40(22.86,25.4) B42(25.4,25.4) BA1(-26.67,-24.13) BA3(-24.13,-24.13) BA5(-21.59,-24.13) BA7(-19.05,-24.13) BA9(-16.51,-24.13) BA11(-13.97,-24.13) BA13(-11.43,-24.13) BA15(-8.89,-24.13) BA17(-6.35,-24.13) BA19(-3.81,-24.13) BA21(-1.27,-24.13) BA23(1.27,-24.13) BA25(3.81,-24.13) BA27(6.35,-24.13) BA29(8.89,-24.13) BA31(11.43,-24.13) BA33(13.97,-24.13) BA35(16.51,-24.13) BA37(19.05,-24.13) BA39(21.59,-24.13) BA41(24.13,-24.13) BA43(26.67,-24.13) BB2(-25.4,-25.4) BB4(-22.86,-25.4) BB6(-20.32,-25.4) BB8(-17.78,-25.4) BB10(-15.24,-25.4) BB12(-12.7,-25.4) BB14(-10.16,-25.4) BB16(-7.62,-25.4) BB18(-5.08,-25.4) BB20(-2.54,-25.4) BB22(0,-25.4) BB24(2.54,-25.4) BB26(5.08,-25.4) BB28(7.62,-25.4) BB30(10.16,-25.4) BB32(12.7,-25.4) BB34(15.24,-25.4) BB36(17.78,-25.4) BB38(20.32,-25.4) BB40(22.86,-25.4) BB42(25.4,-25.4) BC1(-26.67,-26.67) BC3(-24.13,-26.67) BC5(-21.59,-26.67) BC7(-19.05,-26.67) BC9(-16.51,-26.67) BC11(-13.97,-26.67) BC13(-11.43,-26.67) BC15(-8.89,-26.67) BC17(-6.35,-26.67) BC19(-3.81,-26.67) BC21(-1.27,-26.67) BC23(1.27,-26.67) BC25(3.81,-26.67) BC27(6.35,-26.67) BC29(8.89,-26.67) BC31(11.43,-26.67) BC33(13.97,-26.67) BC35(16.51,-26.67) BC37(19.05,-26.67) BC39(21.59,-26.67) BC41(24.13,-26.67) BC43(26.67,-26.67) C1(-26.67,24.13) C3(-24.13,24.13) C5(-21.59,24.13) C7(-19.05,24.13) C9(-16.51,24.13) C11(-13.97,24.13) C13(-11.43,24.13) C15(-8.89,24.13) C17(-6.35,24.13) C19(-3.81,24.13) C21(-1.27,24.13) C23(1.27,24.13) C25(3.81,24.13) C27(6.35,24.13) C29(8.89,24.13) C31(11.43,24.13) C33(13.97,24.13) C35(16.51,24.13) C37(19.05,24.13) C39(21.59,24.13) C41(24.13,24.13) C43(26.67,24.13) D2(-25.4,22.86) D4(-22.86,22.86) D6(-20.32,22.86) D8(-17.78,22.86) D10(-15.24,22.86) D12(-12.7,22.86) D14(-10.16,22.86) D16(-7.62,22.86) D18(-5.08,22.86) D20(-2.54,22.86) D22(0,22.86) D24(2.54,22.86) D26(5.08,22.86) D28(7.62,22.86) D30(10.16,22.86) D32(12.7,22.86) D34(15.24,22.86) D36(17.78,22.86) D38(20.32,22.86) D40(22.86,22.86) D42(25.4,22.86) E1(-26.67,21.59) E3(-24.13,21.59) E5(-21.59,21.59) E7(-19.05,21.59) E9(-16.51,21.59) E11(-13.97,21.59) E13(-11.43,21.59) E15(-8.89,21.59) E17(-6.35,21.59) E19(-3.81,21.59) E21(-1.27,21.59) E23(1.27,21.59) E25(3.81,21.59) E27(6.35,21.59) E29(8.89,21.59) E31(11.43,21.59) E33(13.97,21.59) E35(16.51,21.59) E37(19.05,21.59) E39(21.59,21.59) E41(24.13,21.59) E43(26.67,21.59) F2(-25.4,20.32) F4(-22.86,20.32) F6(-20.32,20.32) F8(-17.78,20.32) F10(-15.24,20.32) F12(-12.7,20.32) F14(-10.16,20.32) F16(-7.62,20.32) F18(-5.08,20.32) F20(-2.54,20.32) F22(0,20.32) F24(2.54,20.32) F26(5.08,20.32) F28(7.62,20.32) F30(10.16,20.32) F32(12.7,20.32) F34(15.24,20.32) F36(17.78,20.32) F38(20.32,20.32) F40(22.86,20.32) F42(25.4,20.32) G1(-26.67,19.05) G3(-24.13,19.05) G5(-21.59,19.05) G7(-19.05,19.05) G9(-16.51,19.05) G11(-13.97,19.05) G13(-11.43,19.05) G15(-8.89,19.05) G17(-6.35,19.05) G19(-3.81,19.05) G21(-1.27,19.05) G23(1.27,19.05) G25(3.81,19.05) G27(6.35,19.05) G29(8.89,19.05) G31(11.43,19.05) G33(13.97,19.05) G35(16.51,19.05) G37(19.05,19.05) G39(21.59,19.05) G41(24.13,19.05) G43(26.67,19.05) H2(-25.4,17.78) H4(-22.86,17.78) H6(-20.32,17.78) H8(-17.78,17.78) H10(-15.24,17.78) H12(-12.7,17.78) H14(-10.16,17.78) H16(-7.62,17.78) H18(-5.08,17.78) H20(-2.54,17.78) H22(0,17.78) H24(2.54,17.78) H26(5.08,17.78) H28(7.62,17.78) H30(10.16,17.78) H32(12.7,17.78) H34(15.24,17.78) H36(17.78,17.78) H38(20.32,17.78) H40(22.86,17.78) H42(25.4,17.78) J1(-26.67,16.51) J3(-24.13,16.51) J5(-21.59,16.51) J7(-19.05,16.51) J37(19.05,16.51) J39(21.59,16.51) J41(24.13,16.51) J43(26.67,16.51) K2(-25.4,15.24) K4(-22.86,15.24) K6(-20.32,15.24) K8(-17.78,15.24) K36(17.78,15.24) K38(20.32,15.24) K40(22.86,15.24) K42(25.4,15.24) L1(-26.67,13.97) L3(-24.13,13.97) L5(-21.59,13.97) L7(-19.05,13.97) L37(19.05,13.97) L39(21.59,13.97) L41(24.13,13.97) L43(26.67,13.97) M2(-25.4,12.7) M4(-22.86,12.7) M6(-20.32,12.7) M8(-17.78,12.7) M36(17.78,12.7) M38(20.32,12.7) M40(22.86,12.7) M42(25.4,12.7) N1(-26.67,11.43) N3(-24.13,11.43) N5(-21.59,11.43) N7(-19.05,11.43) N37(19.05,11.43) N39(21.59,11.43) N41(24.13,11.43) N43(26.67,11.43) P2(-25.4,10.16) P4(-22.86,10.16) P6(-20.32,10.16) P8(-17.78,10.16) P36(17.78,10.16) P38(20.32,10.16) P40(22.86,10.16) P42(25.4,10.16) R1(-26.67,8.89) R3(-24.13,8.89) R5(-21.59,8.89) R7(-19.05,8.89) R37(19.05,8.89) R39(21.59,8.89) R41(24.13,8.89) R43(26.67,8.89) T2(-25.4,7.62) T4(-22.86,7.62) T6(-20.32,7.62) T8(-17.78,7.62) T36(17.78,7.62) T38(20.32,7.62) T40(22.86,7.62) T42(25.4,7.62) U1(-26.67,6.35) U3(-24.13,6.35) U5(-21.59,6.35) U7(-19.05,6.35) U37(19.05,6.35) U39(21.59,6.35) U41(24.13,6.35) U43(26.67,6.35) V2(-25.4,5.08) V4(-22.86,5.08) V6(-20.32,5.08) V8(-17.78,5.08) V36(17.78,5.08) V38(20.32,5.08) V40(22.86,5.08) V42(25.4,5.08) W1(-26.67,3.81) W3(-24.13,3.81) W5(-21.59,3.81) W7(-19.05,3.81) W37(19.05,3.81) W39(21.59,3.81) W41(24.13,3.81) W43(26.67,3.81) Y2(-25.4,2.54) Y4(-22.86,2.54) Y6(-20.32,2.54) Y8(-17.78,2.54) Y36(17.78,2.54) Y38(20.32,2.54) Y40(22.86,2.54) Y42(25.4,2.54)
Top Overlay:
  circle w0.25: c-29.65,26.67 r0.125
  lines w0.2: -29,-29 29,-29 29,29 -28,29 -29,28 -29,-29

## PGA62x62-P599 [mm] "599-Pin Ceramic Pin-Grid Array (PGA)"
height 5.08
pads (599):
  round 1.5 hole 0.9: A3(-26.67,29.21) A5(-24.13,29.21) A7(-21.59,29.21) A9(-19.05,29.21) A11(-16.51,29.21) A13(-13.97,29.21) A15(-11.43,29.21) A17(-8.89,29.21) A19(-6.35,29.21) A21(-3.81,29.21) A23(-1.27,29.21) A25(1.27,29.21) A27(3.81,29.21) A29(6.35,29.21) A31(8.89,29.21) A33(11.43,29.21) A35(13.97,29.21) A37(16.51,29.21) A39(19.05,29.21) A41(21.59,29.21) A43(24.13,29.21) A45(26.67,29.21) A47(29.21,29.21) AA1(-29.21,3.81) AA3(-26.67,3.81) AA5(-24.13,3.81) AA7(-21.59,3.81) AA41(21.59,3.81) AA43(24.13,3.81) AA45(26.67,3.81) AA47(29.21,3.81) AB2(-27.94,2.54) AB4(-25.4,2.54) AB6(-22.86,2.54) AB8(-20.32,2.54) AB40(20.32,2.54) AB42(22.86,2.54) AB44(25.4,2.54) AB46(27.94,2.54) AC1(-29.21,1.27) AC3(-26.67,1.27) AC5(-24.13,1.27) AC7(-21.59,1.27) AC41(21.59,1.27) AC43(24.13,1.27) AC45(26.67,1.27) AC47(29.21,1.27) AD2(-27.94,0) AD4(-25.4,0) AD6(-22.86,0) AD8(-20.32,0) AD40(20.32,0) AD42(22.86,0) AD44(25.4,0) AD46(27.94,0) AE1(-29.21,-1.27) AE3(-26.67,-1.27) AE5(-24.13,-1.27) AE7(-21.59,-1.27) AE41(21.59,-1.27) AE43(24.13,-1.27) AE45(26.67,-1.27) AE47(29.21,-1.27) AF2(-27.94,-2.54) AF4(-25.4,-2.54) AF6(-22.86,-2.54) AF8(-20.32,-2.54) AF40(20.32,-2.54) AF42(22.86,-2.54) AF44(25.4,-2.54) AF46(27.94,-2.54) AG1(-29.21,-3.81) AG3(-26.67,-3.81) AG5(-24.13,-3.81) AG7(-21.59,-3.81) AG41(21.59,-3.81) AG43(24.13,-3.81) AG45(26.67,-3.81) AG47(29.21,-3.81) AH2(-27.94,-5.08) AH4(-25.4,-5.08) AH6(-22.86,-5.08) AH8(-20.32,-5.08) AH40(20.32,-5.08) AH42(22.86,-5.08) AH44(25.4,-5.08) AH46(27.94,-5.08) AJ1(-29.21,-6.35) AJ3(-26.67,-6.35) AJ5(-24.13,-6.35) AJ7(-21.59,-6.35) AJ41(21.59,-6.35) AJ43(24.13,-6.35) AJ45(26.67,-6.35) AJ47(29.21,-6.35) AK2(-27.94,-7.62) AK4(-25.4,-7.62) AK6(-22.86,-7.62) AK8(-20.32,-7.62) AK40(20.32,-7.62) AK42(22.86,-7.62) AK44(25.4,-7.62) AK46(27.94,-7.62) AL1(-29.21,-8.89) AL3(-26.67,-8.89) AL5(-24.13,-8.89) AL7(-21.59,-8.89) AL41(21.59,-8.89) AL43(24.13,-8.89) AL45(26.67,-8.89) AL47(29.21,-8.89) AM2(-27.94,-10.16) AM4(-25.4,-10.16) AM6(-22.86,-10.16) AM8(-20.32,-10.16) AM40(20.32,-10.16) AM42(22.86,-10.16) AM44(25.4,-10.16) AM46(27.94,-10.16) AN1(-29.21,-11.43) AN3(-26.67,-11.43) AN5(-24.13,-11.43) AN7(-21.59,-11.43) AN41(21.59,-11.43) AN43(24.13,-11.43) AN45(26.67,-11.43) AN47(29.21,-11.43) AP2(-27.94,-12.7) AP4(-25.4,-12.7) AP6(-22.86,-12.7) AP8(-20.32,-12.7) AP40(20.32,-12.7) AP42(22.86,-12.7) AP44(25.4,-12.7) AP46(27.94,-12.7) AR1(-29.21,-13.97) AR3(-26.67,-13.97) AR5(-24.13,-13.97) AR7(-21.59,-13.97) AR41(21.59,-13.97) AR43(24.13,-13.97) AR45(26.67,-13.97) AR47(29.21,-13.97) AT2(-27.94,-15.24) AT4(-25.4,-15.24) AT6(-22.86,-15.24) AT8(-20.32,-15.24) AT40(20.32,-15.24) AT42(22.86,-15.24) AT44(25.4,-15.24) AT46(27.94,-15.24) AU1(-29.21,-16.51) AU3(-26.67,-16.51) AU5(-24.13,-16.51) AU7(-21.59,-16.51) AU41(21.59,-16.51) AU43(24.13,-16.51) AU45(26.67,-16.51) AU47(29.21,-16.51) AV2(-27.94,-17.78) AV4(-25.4,-17.78) AV6(-22.86,-17.78) AV8(-20.32,-17.78) AV40(20.32,-17.78) AV42(22.86,-17.78) AV44(25.4,-17.78) AV46(27.94,-17.78) AW1(-29.21,-19.05) AW3(-26.67,-19.05) AW5(-24.13,-19.05) AW7(-21.59,-19.05) AW9(-19.05,-19.05) AW39(19.05,-19.05) AW41(21.59,-19.05) AW43(24.13,-19.05) AW45(26.67,-19.05) AW47(29.21,-19.05) AY2(-27.94,-20.32) AY4(-25.4,-20.32) AY6(-22.86,-20.32) AY8(-20.32,-20.32) AY10(-17.78,-20.32) AY38(17.78,-20.32) AY40(20.32,-20.32) AY42(22.86,-20.32) AY44(25.4,-20.32) AY46(27.94,-20.32) B2(-27.94,27.94) B4(-25.4,27.94) B6(-22.86,27.94) B8(-20.32,27.94) B10(-17.78,27.94) B12(-15.24,27.94) B14(-12.7,27.94) B16(-10.16,27.94) B18(-7.62,27.94) B20(-5.08,27.94) B22(-2.54,27.94) B24(0,27.94) B26(2.54,27.94) B28(5.08,27.94) B30(7.62,27.94) B32(10.16,27.94) B34(12.7,27.94) B36(15.24,27.94) B38(17.78,27.94) B40(20.32,27.94) B42(22.86,27.94) B44(25.4,27.94) B46(27.94,27.94) BA1(-29.21,-21.59) BA3(-26.67,-21.59) BA5(-24.13,-21.59) BA7(-21.59,-21.59) BA9(-19.05,-21.59) BA11(-16.51,-21.59) BA13(-13.97,-21.59) BA15(-11.43,-21.59) BA17(-8.89,-21.59) BA19(-6.35,-21.59) BA21(-3.81,-21.59) BA23(-1.27,-21.59) BA25(1.27,-21.59) BA27(3.81,-21.59) BA29(6.35,-21.59) BA31(8.89,-21.59) BA33(11.43,-21.59) BA35(13.97,-21.59) BA37(16.51,-21.59) BA39(19.05,-21.59) BA41(21.59,-21.59) BA43(24.13,-21.59) BA45(26.67,-21.59) BA47(29.21,-21.59) BB2(-27.94,-22.86) BB4(-25.4,-22.86) BB6(-22.86,-22.86) BB8(-20.32,-22.86) BB10(-17.78,-22.86) BB12(-15.24,-22.86) BB14(-12.7,-22.86) BB16(-10.16,-22.86) BB18(-7.62,-22.86) BB20(-5.08,-22.86) BB22(-2.54,-22.86) BB24(0,-22.86) BB26(2.54,-22.86) BB28(5.08,-22.86) BB30(7.62,-22.86) BB32(10.16,-22.86) BB34(12.7,-22.86) BB36(15.24,-22.86) BB38(17.78,-22.86) BB40(20.32,-22.86) BB42(22.86,-22.86) BB44(25.4,-22.86) BB46(27.94,-22.86) BC1(-29.21,-24.13) BC3(-26.67,-24.13) BC5(-24.13,-24.13) BC7(-21.59,-24.13) BC9(-19.05,-24.13) BC11(-16.51,-24.13) BC13(-13.97,-24.13) BC15(-11.43,-24.13) BC17(-8.89,-24.13) BC19(-6.35,-24.13) BC21(-3.81,-24.13) BC23(-1.27,-24.13) BC25(1.27,-24.13) BC27(3.81,-24.13) BC29(6.35,-24.13) BC31(8.89,-24.13) BC33(11.43,-24.13) BC35(13.97,-24.13) BC37(16.51,-24.13) BC39(19.05,-24.13) BC41(21.59,-24.13) BC43(24.13,-24.13) BC45(26.67,-24.13) BC47(29.21,-24.13) BD2(-27.94,-25.4) BD4(-25.4,-25.4) BD6(-22.86,-25.4) BD8(-20.32,-25.4) BD10(-17.78,-25.4) BD12(-15.24,-25.4) BD14(-12.7,-25.4) BD16(-10.16,-25.4) BD18(-7.62,-25.4) BD20(-5.08,-25.4) BD22(-2.54,-25.4) BD24(0,-25.4) BD26(2.54,-25.4) BD28(5.08,-25.4) BD30(7.62,-25.4) BD32(10.16,-25.4) BD34(12.7,-25.4) BD36(15.24,-25.4) BD38(17.78,-25.4) BD40(20.32,-25.4) BD42(22.86,-25.4) BD44(25.4,-25.4) BD46(27.94,-25.4) BE1(-29.21,-26.67) BE3(-26.67,-26.67) BE5(-24.13,-26.67) BE7(-21.59,-26.67) BE9(-19.05,-26.67) BE11(-16.51,-26.67) BE13(-13.97,-26.67) BE15(-11.43,-26.67) BE17(-8.89,-26.67) BE19(-6.35,-26.67) BE21(-3.81,-26.67) BE23(-1.27,-26.67) BE25(1.27,-26.67) BE27(3.81,-26.67) BE29(6.35,-26.67) BE31(8.89,-26.67) BE33(11.43,-26.67) BE35(13.97,-26.67) BE37(16.51,-26.67) BE39(19.05,-26.67) BE41(21.59,-26.67) BE43(24.13,-26.67) BE45(26.67,-26.67) BE47(29.21,-26.67) BF2(-27.94,-27.94) BF4(-25.4,-27.94) BF6(-22.86,-27.94) BF8(-20.32,-27.94) BF10(-17.78,-27.94) BF12(-15.24,-27.94) BF14(-12.7,-27.94) BF16(-10.16,-27.94) BF18(-7.62,-27.94) BF20(-5.08,-27.94) BF22(-2.54,-27.94) BF24(0,-27.94) BF26(2.54,-27.94) BF28(5.08,-27.94) BF30(7.62,-27.94) BF32(10.16,-27.94) BF34(12.7,-27.94) BF36(15.24,-27.94) BF38(17.78,-27.94) BF40(20.32,-27.94) BF42(22.86,-27.94) BF44(25.4,-27.94) BF46(27.94,-27.94) BG1(-29.21,-29.21) BG3(-26.67,-29.21) BG5(-24.13,-29.21) BG7(-21.59,-29.21) BG9(-19.05,-29.21) BG11(-16.51,-29.21) BG13(-13.97,-29.21) BG15(-11.43,-29.21) BG17(-8.89,-29.21) BG19(-6.35,-29.21) BG21(-3.81,-29.21) BG23(-1.27,-29.21) BG25(1.27,-29.21) BG27(3.81,-29.21) BG29(6.35,-29.21) BG31(8.89,-29.21) BG33(11.43,-29.21) BG35(13.97,-29.21) BG37(16.51,-29.21) BG39(19.05,-29.21) BG41(21.59,-29.21) BG43(24.13,-29.21) BG45(26.67,-29.21) BG47(29.21,-29.21) C1(-29.21,26.67) C3(-26.67,26.67) C5(-24.13,26.67) C7(-21.59,26.67) C9(-19.05,26.67) C11(-16.51,26.67) C13(-13.97,26.67) C15(-11.43,26.67) C17(-8.89,26.67) C19(-6.35,26.67) C21(-3.81,26.67) C23(-1.27,26.67) C25(1.27,26.67) C27(3.81,26.67) C29(6.35,26.67) C31(8.89,26.67) C33(11.43,26.67) C35(13.97,26.67) C37(16.51,26.67) C39(19.05,26.67) C41(21.59,26.67) C43(24.13,26.67) C45(26.67,26.67) C47(29.21,26.67) D2(-27.94,25.4) D4(-25.4,25.4) D6(-22.86,25.4) D8(-20.32,25.4) D10(-17.78,25.4) D12(-15.24,25.4) D14(-12.7,25.4) D16(-10.16,25.4) D18(-7.62,25.4) D20(-5.08,25.4) D22(-2.54,25.4) D24(0,25.4) D26(2.54,25.4) D28(5.08,25.4) D30(7.62,25.4) D32(10.16,25.4) D34(12.7,25.4) D36(15.24,25.4) D38(17.78,25.4) D40(20.32,25.4) D42(22.86,25.4) D44(25.4,25.4) D46(27.94,25.4) E1(-29.21,24.13) E3(-26.67,24.13) E5(-24.13,24.13) E7(-21.59,24.13) E9(-19.05,24.13) E11(-16.51,24.13) E13(-13.97,24.13) E15(-11.43,24.13) E17(-8.89,24.13) E19(-6.35,24.13) E21(-3.81,24.13) E23(-1.27,24.13) E25(1.27,24.13) E27(3.81,24.13) E29(6.35,24.13) E31(8.89,24.13) E33(11.43,24.13) E35(13.97,24.13) E37(16.51,24.13) E39(19.05,24.13) E41(21.59,24.13) E43(24.13,24.13) E45(26.67,24.13) E47(29.21,24.13) F2(-27.94,22.86) F4(-25.4,22.86) F6(-22.86,22.86) F8(-20.32,22.86) F10(-17.78,22.86) F12(-15.24,22.86) F14(-12.7,22.86) F16(-10.16,22.86) F18(-7.62,22.86) F20(-5.08,22.86) F22(-2.54,22.86) F24(0,22.86) F26(2.54,22.86) F28(5.08,22.86) F30(7.62,22.86) F32(10.16,22.86) F34(12.7,22.86) F36(15.24,22.86) F38(17.78,22.86) F40(20.32,22.86) F42(22.86,22.86) F44(25.4,22.86) F46(27.94,22.86) G1(-29.21,21.59) G3(-26.67,21.59) G5(-24.13,21.59) G7(-21.59,21.59) G9(-19.05,21.59) G11(-16.51,21.59) G13(-13.97,21.59) G15(-11.43,21.59) G17(-8.89,21.59) G19(-6.35,21.59) G21(-3.81,21.59) G23(-1.27,21.59) G25(1.27,21.59) G27(3.81,21.59) G29(6.35,21.59) G31(8.89,21.59) G33(11.43,21.59) G35(13.97,21.59) G37(16.51,21.59) G39(19.05,21.59) G41(21.59,21.59) G43(24.13,21.59) G45(26.67,21.59) G47(29.21,21.59) H2(-27.94,20.32) H4(-25.4,20.32) H6(-22.86,20.32) H8(-20.32,20.32) H38(17.78,20.32) H40(20.32,20.32) H42(22.86,20.32) H44(25.4,20.32) H46(27.94,20.32) J1(-29.21,19.05) J3(-26.67,19.05) J5(-24.13,19.05) J7(-21.59,19.05) J39(19.05,19.05) J41(21.59,19.05) J43(24.13,19.05) J45(26.67,19.05) J47(29.21,19.05) K2(-27.94,17.78) K4(-25.4,17.78) K6(-22.86,17.78) K8(-20.32,17.78) K40(20.32,17.78) K42(22.86,17.78) K44(25.4,17.78) K46(27.94,17.78) L1(-29.21,16.51) L3(-26.67,16.51) L5(-24.13,16.51) L7(-21.59,16.51) L41(21.59,16.51) L43(24.13,16.51) L45(26.67,16.51) L47(29.21,16.51) M2(-27.94,15.24) M4(-25.4,15.24) M6(-22.86,15.24) M8(-20.32,15.24) M40(20.32,15.24) M42(22.86,15.24) M44(25.4,15.24) M46(27.94,15.24) N1(-29.21,13.97) N3(-26.67,13.97) N5(-24.13,13.97) N7(-21.59,13.97) N41(21.59,13.97) N43(24.13,13.97) N45(26.67,13.97) N47(29.21,13.97) P2(-27.94,12.7) P4(-25.4,12.7) P6(-22.86,12.7) P8(-20.32,12.7) P40(20.32,12.7) P42(22.86,12.7) P44(25.4,12.7) P46(27.94,12.7) R1(-29.21,11.43) R3(-26.67,11.43) R5(-24.13,11.43) R7(-21.59,11.43) R41(21.59,11.43) R43(24.13,11.43) R45(26.67,11.43) R47(29.21,11.43) T2(-27.94,10.16) T4(-25.4,10.16) T6(-22.86,10.16) T8(-20.32,10.16) T40(20.32,10.16) T42(22.86,10.16) T44(25.4,10.16) T46(27.94,10.16) U1(-29.21,8.89) U3(-26.67,8.89) U5(-24.13,8.89) U7(-21.59,8.89) U41(21.59,8.89) U43(24.13,8.89) U45(26.67,8.89) U47(29.21,8.89) V2(-27.94,7.62) V4(-25.4,7.62) V6(-22.86,7.62) V8(-20.32,7.62) V40(20.32,7.62) V42(22.86,7.62) V44(25.4,7.62) V46(27.94,7.62) W1(-29.21,6.35) W3(-26.67,6.35) W5(-24.13,6.35) W7(-21.59,6.35) W41(21.59,6.35) W43(24.13,6.35) W45(26.67,6.35) W47(29.21,6.35) Y2(-27.94,5.08) Y4(-25.4,5.08) Y6(-22.86,5.08) Y8(-20.32,5.08) Y40(20.32,5.08) Y42(22.86,5.08) Y44(25.4,5.08) Y46(27.94,5.08)
Top Overlay:
  circle w0.25: c-32.1,29.21 r0.125
  lines w0.2: -31.45,-31.45 -31.45,30.45 -30.45,31.45 31.45,31.45 31.45,-31.45 -31.45,-31.45